# Altium schematic symbol library Conn,USB-C,SMD.Schlib: 1 symbol
Pins are listed as number, name and electrical type; pins without a type are passive.

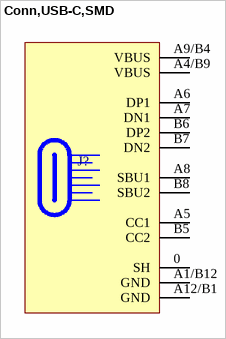
[diagram p0: symbol Conn,USB-C,SMD]

## Conn,USB-C,SMD
designator J?
pins: 0 SH, A1/B12 GND, A4/B9 VBUS, A5 CC1, A6 DP1, A7 DN1, A8 SBU1, A9/B4 VBUS, A12/B1 GND, B5 CC2, B6 DP2, B7 DN2, B8 SBU2